# Altium footprint library Generic Connectors.PcbLib: 11 footprints
Each footprint in its own frame and in the unit in brackets; x right, y up, seen from the top. Pads: shape width x height; smd on the part's side, far side on the other; paste and mask are expansions set on the pad; w line width, h text height; cw(c..) or ccw(c..) is an arc to the next point about the centre after c.
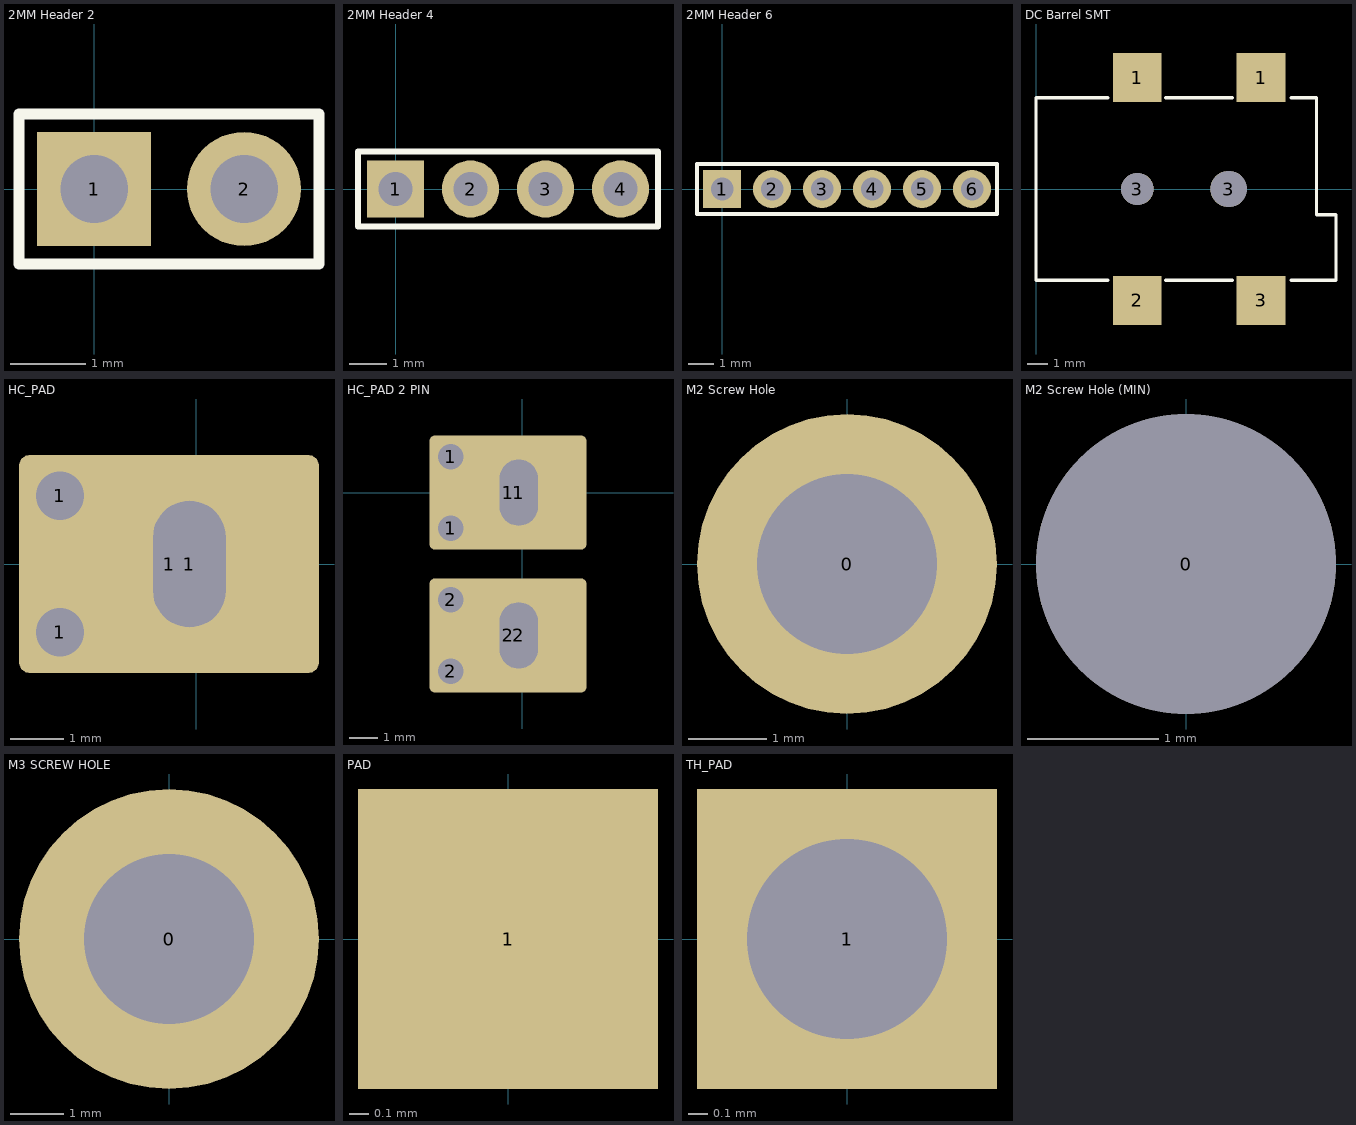
[diagram p0: the footprints below, top view; thin cyan lines are the x and y axes]

## 2MM Header 2 [mil] "2MM 2PIN"
pads (2):
  rect 60x60 hole 35.43: 1(0,0)
  round 60 hole 35.43: 2(78.74,0)
Top Overlay:
  lines w6: -39.37,-39.37 118.11,-39.37 118.11,39.37 -39.37,39.37 -39.37,-39.37

## 2MM Header 4 [mil] "2MM 4PIN"
pads (4):
  rect 60x60 hole 35.43: 1(0,0)
  round 60 hole 35.43: 2(78.74,0) 3(157.48,0) 4(236.22,0)
Top Overlay:
  lines w6: -39.37,-39.37 -39.37,39.37 275.59,39.37 275.59,-39.37 -39.37,-39.37

## 2MM Header 6 [mil] "2MM 6PIN"
pads (6):
  rect 60x60 hole 35.43: 1(0,0)
  round 60 hole 35.43: 2(78.74,0) 3(157.48,0) 4(236.22,0) 5(314.96,0) 6(393.7,0)
Top Overlay:
  lines w6: -39.37,-39.37 433.07,-39.37 433.07,39.37 -39.37,39.37 -39.37,-39.37

## DC Barrel SMT [mm] "SMT 2.1mm/2.5mm Barrel SMT Connector (CUI PJ-002BH-SMT)"
height 11
pads (6):
  rect 2.4x2.4 smd: 1(5,5.5) 1(11.1,5.5) 2(5,-5.5) 3(11.1,-5.5)
  round 1.6 hole 1.6 unplated paste+0: 3(5,0)
  round 1.8 hole 1.8 unplated: 3(9.5,0)
Top Overlay:
  lines w0.152: 3.556,-4.5 0,-4.5 0,4.5 3.556,4.5 ; 6.4,-4.5 9.7,-4.5 ; 6.4,4.5 9.7,4.5 ; 12.573,-4.5 14.8,-4.5 14.8,-1.27 13.843,-1.27 13.843,4.5 12.573,4.5
3D body: height 11.2, standoff -1, extent -0.025,-6.325 14.775,6.275

## HC_PAD [mm] "High Current Pad"
pads (4):
  round 1.5 hole 0.9: 1(-2.54,-1.27) 1(-2.54,1.27)
  rrect10% 5.588x4.064 smd paste-254: 1(-0.508,0)
  rrect100% 2.25x3.25 hole 1.35 slot 2.35 at 90 deg: 1(-0.127,0)

## HC_PAD 2 PIN [mm] "High Current Pad 2 PIN"
pads (8):
  round 1.5 hole 0.9: 1(-2.54,-1.27) 1(-2.54,1.27) 2(-2.54,-6.35) 2(-2.54,-3.81)
  rrect10% 5.588x4.064 smd paste-254: 1(-0.508,0) 2(-0.508,-5.08)
  rrect100% 2.25x3.25 hole 1.35 slot 2.35 at 90 deg: 1(-0.127,0) 2(-0.127,-5.08)

## M2 Screw Hole [mil] "Mechanical Screw Hole Fits M2, M2.2, 2-56 Screw"
pads (1):
  round 150 hole 90: 0(0,0)
3D body: height 84.25, standoff -375, extent -69,-68.9 68.8,68.9

## M2 Screw Hole (MIN) [mil] "Minimal Mechanical Screw Hole Fits M2, M2.2, 2-56 Screw"
pads (1):
  round 90 hole 90 unplated: 0(0,0)
3D body: height 84.25, standoff -375, extent -69,-68.9 68.8,68.9

## M3 SCREW HOLE [mil] "Mechanical Screw Hole Fits M3, 4-40 Screw"
height 196.85
pads (1):
  round 220 hole 125: 0(0,0)
3D body: height 112, standoff -250, extent -91,-92 92,91

## PAD [mil] "60x60mil Test Point"
pads (1):
  rect 60x60 smd: 1(0,0)

## TH_PAD [mil] "Through Hole 60x60mil Test Point"
pads (1):
  rect 60x60 hole 40: 1(0,0)